# Altium schematic symbol library DIODO_SMD.SchLib: 2 symbols
Pins are listed as number, name and electrical type; pins without a type are passive.

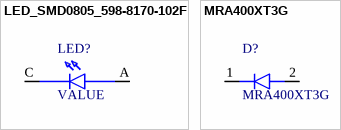
[diagram p0: symbols LED_SMD0805_598-8170-102F to MRA400XT3G]

## LED_SMD0805_598-8170-102F
designator LED?, comment VALUE
Led; 0805 Smt Led, Green, Alingap, Water Clear Lens, 140 Deg Viewing Angle; MF: Dialight; MP: 598-8170-102F; Availability: Unavailable; Package: 0805 Dialight; SnapEDA_Link: https://www.snapeda.com/parts/598-8170-102F/Dialight/view-part/?ref=snap; Price: None; Value: VALUE
footprint LEDSMD0805
pins: A, C

## MRA400XT3G
designator D?
SMD DO-214, Standard  Recovery Power Rectifier; MF: ON SEMI; Package: DO-214AC; MP: MRA400XT3G; Price: None; Value: MRA400XT3G
footprint DO-214AC (CASE 403D - SMA)
pins: 1 C, 2 A